# Altium schematic symbol library Pin AA x2.SchLib: 1 symbol
Pins are listed as number, name and electrical type; pins without a type are passive.

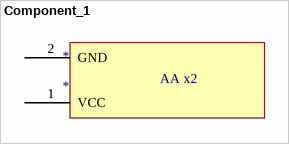
[diagram p0: symbol Component_1]

## Component_1
designator *
footprint AA
pins: 1 VCC, 2 GND
text: AA x2